# Altium schematic symbol library ACP3225.SchLib: 1 symbol
Pins are listed as number, name and electrical type; pins without a type are passive.

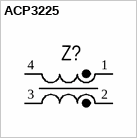
[diagram p0: symbol ACP3225]

## ACP3225
designator Z?  (value not drawn)
pins: 1, 2, 3, 4